# Altium footprint library LDO-DC_DC.PcbLib: 35 footprints (part 1 of 3)
Each footprint in its own frame and in the unit in brackets; x right, y up, seen from the top. Pads: shape width x height; smd on the part's side, far side on the other; paste and mask are expansions set on the pad; w line width, h text height; cw(c..) or ccw(c..) is an arc to the next point about the centre after c.
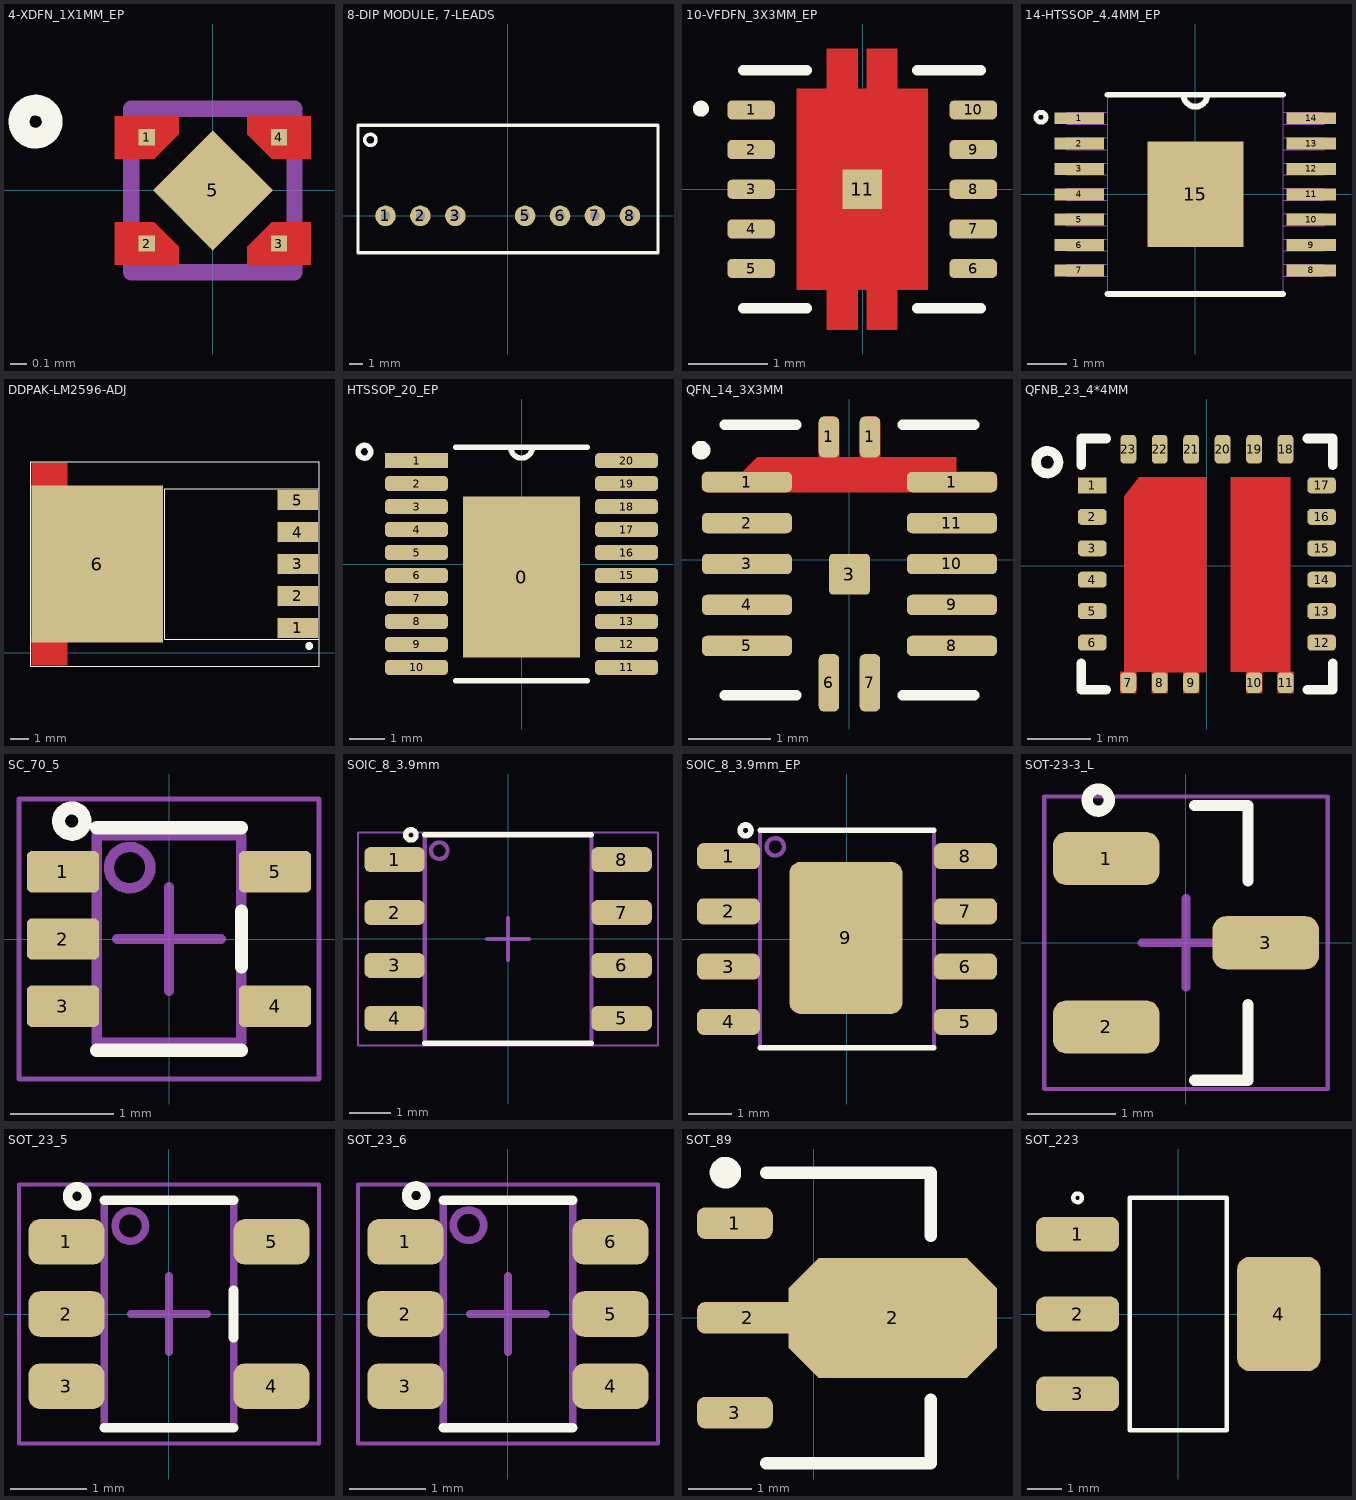
[diagram p0: the footprints below, top view; thin cyan lines are the x and y axes]

## 4-XDFN_1X1MM_EP [mm] "20220103 / A-F.Romo"
pads (5):
  rect 0.1x0.1 smd paste-1 mask+0: 1(-0.405,0.325) 2(-0.405,-0.325) 3(0.405,-0.325) 4(0.405,0.325)
  rect 0.52x0.52 smd rot 45: 5(0,0)
Top Layer:
  region: -0.21,0.345 -0.36,0.195 -0.6,0.195 -0.6,0.455 -0.21,0.455
  region: -0.21,-0.345 -0.21,-0.455 -0.6,-0.455 -0.6,-0.195 -0.36,-0.195
  region: 0.6,-0.455 0.21,-0.455 0.21,-0.345 0.36,-0.195 0.6,-0.195
  region: 0.6,0.195 0.36,0.195 0.21,0.345 0.21,0.455 0.6,0.455
Top Overlay:
  circle w0.127: c-1.085,0.421 r0.102
Top Paste:
  region: -0.21,0.345 -0.36,0.195 -0.6,0.195 -0.6,0.455 -0.21,0.455
  region: -0.21,-0.345 -0.21,-0.455 -0.6,-0.455 -0.6,-0.195 -0.36,-0.195
  region: 0.6,-0.455 0.21,-0.455 0.21,-0.345 0.36,-0.195 0.6,-0.195
  region: 0.6,0.195 0.36,0.195 0.21,0.345 0.21,0.455 0.6,0.455
Top Solder:
  region: -0.16,0.32 -0.335,0.145 -0.65,0.145 -0.65,0.505 -0.16,0.505
  region: -0.16,-0.32 -0.16,-0.505 -0.65,-0.505 -0.65,-0.145 -0.335,-0.145
  region: 0.65,-0.505 0.16,-0.505 0.16,-0.32 0.335,-0.145 0.65,-0.145
  region: 0.65,0.145 0.335,0.145 0.16,0.32 0.16,0.505 0.65,0.505
Mechanical 1:
  lines w0.1: -0.5,-0.5 0.5,-0.5 0.5,0.5 -0.5,0.5 -0.5,-0.5
3D body "step_temp.STEP": height 0.38, standoff -0.05, extent -0.5,-0.5 0.5,0.5

## 8-DIP MODULE, 7-LEADS [mm] "/20220607/F-A.Ospina"
pads (7):
  round 1.5 hole 0.635: 1(-8.89,0) 2(-6.35,0) 3(-3.81,0) 5(1.27,0) 6(3.81,0) 7(6.35,0) 8(8.89,0)
Top Overlay:
  circle w0.254: c-9.988,5.53 r0.408
  lines w0.254: -10.89,-2.7 -10.89,6.6 10.91,6.6 ; -10.87,-2.69 10.93,-2.69 ; 10.94,-2.69 10.94,6.61
3D body: height 2.61, standoff -0.39, extent 8.69,-0.2 9.088,0.2
3D body: height 11.2, standoff 0, extent -10.915,-2.722 10.878,6.575
3D body: height 2.61, standoff -0.39, extent 6.15,-0.2 6.548,0.2
3D body: height 2.61, standoff -0.39, extent 3.61,-0.2 4.008,0.2
3D body: height 2.61, standoff -0.39, extent 1.07,-0.2 1.468,0.2
3D body: height 2.61, standoff -0.39, extent -4.01,-0.2 -3.612,0.2
3D body: height 2.61, standoff -0.39, extent -6.55,-0.2 -6.152,0.2
3D body: height 2.61, standoff -0.39, extent -9.09,-0.2 -8.692,0.2

## 10-VFDFN_3X3MM_EP [mm] "/20210803/J-E.Pachon"
pads (11):
  rrect50% 0.6x0.24 smd: 1(-1.41,1) 2(-1.41,0.5) 3(-1.41,0) 4(-1.41,-0.5) 5(-1.41,-1) 6(1.39,-1) 7(1.39,-0.5) 8(1.39,0) 9(1.39,0.5) 10(1.39,1)
  rect 0.5x0.5 smd paste-1 mask+0: 11(-0.01,0)
Top Layer:
  region: 0.435,1.27 0.815,1.27 0.815,-1.27 0.435,-1.27 0.435,-1.77 0.045,-1.77 0.045,-1.27 -0.065,-1.27 -0.065,-1.77 -0.455,-1.77 -0.455,-1.27 -0.835,-1.27 -0.835,1.27 -0.455,1.27 -0.455,1.77 -0.065,1.77 -0.065,1.27 0.045,1.27 0.045,1.77 0.435,1.77
  region: 0.365,1.2 0.815,1.2 0.815,-1.2 0.365,-1.2 0.365,-1.7 0.115,-1.7 0.115,-1.2 -0.135,-1.2 -0.135,-1.7 -0.385,-1.7 -0.385,-1.2 -0.835,-1.2 -0.835,1.2 -0.385,1.2 -0.385,1.7 -0.135,1.7 -0.135,1.2 0.115,1.2 0.115,1.7 0.365,1.7
Top Overlay:
  circle w0.1: c-2.042,1.016 r0.05
  lines w0.127: -1.51,-1.5 -0.705,-1.5 ; -1.51,1.5 -0.705,1.5 ; 0.685,-1.5 1.49,-1.5 ; 0.685,1.5 1.49,1.5
Top Paste:
  region: -0.135,1.36 -0.385,1.36 -0.385,1.7 -0.135,1.7
  region: 0.365,1.36 0.115,1.36 0.115,1.7 0.365,1.7
  region: -0.135,-1.7 -0.385,-1.7 -0.385,-1.36 -0.135,-1.36
  region: 0.365,-1.7 0.115,-1.7 0.115,-1.36 0.365,-1.36
  region: 0.74,0.1 -0.76,0.1 -0.76,1.16 0.74,1.16
  region: 0.74,-1.16 -0.76,-1.16 -0.76,-0.1 0.74,-0.1
Top Solder:
  region: 0.431,1.277 0.811,1.277 0.811,-1.263 0.431,-1.263 0.431,-1.763 0.041,-1.763 0.041,-1.263 -0.069,-1.263 -0.069,-1.763 -0.459,-1.763 -0.459,-1.263 -0.839,-1.263 -0.839,1.277 -0.459,1.277 -0.459,1.777 -0.069,1.777 -0.069,1.277 0.041,1.277 0.041,1.777 0.431,1.777
3D body "TPS61087DSCR--3DModel-STEP-56544.STEP": height 0.81, standoff 0.01, extent -1.51,-1.5 1.49,1.5

## 14-HTSSOP_4.4MM_EP [mil] "20220111/J-E.Pachon"
pads (15):
  rect 50x12 smd: 1(-117,76.77) 2(-117,51.18) 3(-117,25.59) 4(-117,0) 5(-117,-25.59) 6(-117,-51.18) 7(-117,-76.77) 8(117,-76.77) 9(117,-51.18) 10(117,-25.59) 11(117,0) 12(117,25.59) 13(117,51.18) 14(117,76.77)
  rect 96.85x106.3 smd: 15(0,0)
Top Layer:
  region: 0,45.47
  region: 0,-45.47
Top Overlay:
  circle w5: c-155.91,77.77 r5
  lines w6: -88.5,-100.5 88.5,-100.5 ; -88.5,100.5 88.5,100.5 ; -12,100.5 ccw(c0,100.5) 12,100.5
Top Solder:
  region: 0,45.47
  region: 0,-45.47
Mechanical 13:
  lines w0: -12,100.5 ccw(c0,100.5) 12,100.5
  lines w1: -130,-82.77 -130,-70.77 -88.5,-70.77 -88.5,-82.77 -130,-82.77 ; -130,-57.18 -130,-45.18 -88.5,-45.18 -88.5,-57.18 -130,-57.18 ; -130,-31.59 -130,-19.59 -88.5,-19.59 -88.5,-31.59 -130,-31.59 ; -130,-6 -130,6 -88.5,6 -88.5,-6 -130,-6 ; -130,19.59 -130,31.59 -88.5,31.59 -88.5,19.59 -130,19.59 ; -130,45.18 -130,57.18 -88.5,57.18 -88.5,45.18 -130,45.18 ; -130,70.77 -130,82.77 -88.5,82.77 -88.5,70.77 -130,70.77 ; -88.5,-100.5 88.5,-100.5 88.5,100.5 -88.5,100.5 -88.5,-100.5 ; 88.5,-82.77 88.5,-70.77 130,-70.77 130,-82.77 88.5,-82.77 ; 88.5,-57.18 88.5,-45.18 130,-45.18 130,-57.18 88.5,-57.18 ; 88.5,-31.59 88.5,-19.59 130,-19.59 130,-31.59 88.5,-31.59 ; 88.5,-6 88.5,6 130,6 130,-6 88.5,-6 ; 88.5,19.59 88.5,31.59 130,31.59 130,19.59 88.5,19.59 ; 88.5,45.18 88.5,57.18 130,57.18 130,45.18 88.5,45.18 ; 88.5,70.77 88.5,82.77 130,82.77 130,70.77 88.5,70.77
3D body "PWP14.step": height 67.09, standoff 0, extent -130,-100.52 130,100.5

## DDPAK-LM2596-ADJ [mm] "/ 20231112 / J.Jaramillo"
pads (6):
  rect 2.16x1.07 smd paste-0.102 mask+0.051: 1(16.847,1.32) 2(16.847,3.02) 3(16.847,4.725) 4(16.847,6.42) 5(16.847,8.12)
  rect 6.99x8.33 smd paste-0.102 mask+0.051: 6(6.172,4.72)
Top Layer:
  region: 2.678,10.12 2.678,8.72 4.587,8.72 4.587,10.12
  region: 2.678,0.82 2.678,-0.68 4.587,-0.68 4.587,0.82
Top Overlay:
  circle w0.203: c17.45,0.36 r0.108
  lines w0.051: 17.97,10.17 17.97,-0.731 2.627,-0.731 2.627,10.171 17.97,10.171 ; 9.76,0.72 17.97,0.72 17.97,8.73 9.76,8.73 9.76,0.72
Top Paste:
  region: 2.779,10.018 2.779,8.822 4.486,8.822 4.486,10.018
  region: 2.779,0.718 2.779,-0.578 4.486,-0.578 4.486,0.718
Top Solder:
  region: 2.627,10.171 2.627,8.669 4.638,8.669 4.638,10.171
  region: 2.627,0.871 2.627,-0.731 4.638,-0.731 4.638,0.871
3D body "LM2596S-ADJ_NOPB.STEP": height 4.78, standoff -0.03, extent 3.355,-0.34 17.706,9.82

## HTSSOP_20_EP [mm] "20PTSSOP/20220419/V-A.Patino"
pads (21):
  rect 3.32x4.55 smd: 0(0,-0.37)
  rect 1.78x0.42 smd: 1(-2.97,2.925)
  rrect50% 1.78x0.42 smd: 2(-2.97,2.275) 3(-2.97,1.625) 4(-2.97,0.975) 5(-2.97,0.325) 6(-2.97,-0.325) 7(-2.97,-0.975) 8(-2.97,-1.625) 9(-2.97,-2.275) 10(-2.97,-2.925) 11(2.97,-2.925) 12(2.97,-2.275) 13(2.97,-1.625) 14(2.97,-0.975) 15(2.97,-0.325) 16(2.97,0.325) 17(2.97,0.975) 18(2.97,1.625) 19(2.97,2.275) 20(2.97,2.925)
Top Overlay:
  circle w0.152: c-4.445,3.175 r0.18
  lines w0.152: -1.867,-3.302 1.867,-3.302 ; -1.867,3.302 1.867,3.302 ; -0.305,3.302 ccw(c0,3.302) 0.305,3.302
3D body "PWP0020AA.stp": height 0.98, standoff -0.02, extent -3.21,-3.25 3.21,3.25

## QFN_14_3X3MM [mm] "20220809 / E.Naranjo"
pads (15):
  rrect50% 1.1x0.25 smd mask+0.051: 1(-1.25,0.95) 1(1.25,0.95) 2(-1.25,0.45) 3(-1.25,-0.05) 4(-1.25,-0.55) 5(-1.25,-1.05) 8(1.25,-1.05) 9(1.25,-0.55) 10(1.25,-0.05) 11(1.25,0.45)
  rrect50% 0.25x0.5 smd mask+0.051: 1(-0.25,1.5) 1(0.25,1.5)
  rrect20% 0.5x0.5 smd mask+0.051: 3(0,-0.175)
  rrect50% 0.25x0.7 smd mask+0.051: 6(-0.25,-1.5) 7(0.25,-1.5)
Top Layer:
  region: -1.3,1.075 -1.125,1.25 -0.375,1.25 -0.375,1.656 -0.375,1.674 -0.361,1.709 -0.334,1.736 -0.299,1.75 -0.281,1.75 -0.221,1.75 -0.202,1.75 -0.167,1.735 -0.14,1.708 -0.125,1.673 -0.125,1.654 -0.125,1.25 0.125,1.25 0.125,1.642 0.125,1.663 0.142,1.703 0.172,1.733 0.212,1.75 0.233,1.75 0.288,1.75 0.305,1.75 0.337,1.737 0.362,1.712 0.375,1.68 0.375,1.663 0.375,1.25 1.3,1.25 1.3,1.075 1.712,1.075 1.729,1.075 1.762,1.062 1.787,1.037 1.8,1.004 1.8,0.987 1.8,0.918 1.8,0.9 1.786,0.865 1.76,0.839 1.725,0.825 1.707,0.825 -1.727,0.825 -1.741,0.825 -1.768,0.836 -1.789,0.857 -1.8,0.884 -1.8,0.898 -1.8,1.011 -1.8,1.023 -1.79,1.047 -1.772,1.065 -1.748,1.075 -1.736,1.075
Top Overlay:
  circle w0.127: c-1.81,1.34 r0.05
  lines w0.127: -1.52,-1.65 -0.65,-1.65 ; -1.52,1.65 -0.65,1.65 ; 0.65,-1.65 1.52,-1.65 ; 0.65,1.65 1.52,1.65
Top Paste:
  region: -1.3,1.075 -1.125,1.25 -0.375,1.25 -0.375,1.656 -0.375,1.674 -0.361,1.709 -0.334,1.736 -0.299,1.75 -0.281,1.75 -0.221,1.75 -0.202,1.75 -0.167,1.735 -0.14,1.708 -0.125,1.673 -0.125,1.654 -0.125,1.25 0.125,1.25 0.125,1.642 0.125,1.663 0.142,1.703 0.172,1.733 0.212,1.75 0.233,1.75 0.288,1.75 0.305,1.75 0.337,1.737 0.362,1.712 0.375,1.68 0.375,1.663 0.375,1.25 1.3,1.25 1.3,1.075 1.712,1.075 1.729,1.075 1.762,1.062 1.787,1.037 1.8,1.004 1.8,0.987 1.8,0.918 1.8,0.9 1.786,0.865 1.76,0.839 1.725,0.825 1.707,0.825 -1.727,0.825 -1.741,0.825 -1.768,0.836 -1.789,0.857 -1.8,0.884 -1.8,0.898 -1.8,1.011 -1.8,1.023 -1.79,1.047 -1.772,1.065 -1.748,1.075 -1.736,1.075
Top Solder:
  region: -1.3,1.075 -1.125,1.25 -0.375,1.25 -0.375,1.656 -0.375,1.674 -0.361,1.709 -0.334,1.736 -0.299,1.75 -0.281,1.75 -0.221,1.75 -0.202,1.75 -0.167,1.735 -0.14,1.708 -0.125,1.673 -0.125,1.654 -0.125,1.25 0.125,1.25 0.125,1.642 0.125,1.663 0.142,1.703 0.172,1.733 0.212,1.75 0.233,1.75 0.288,1.75 0.305,1.75 0.337,1.737 0.362,1.712 0.375,1.68 0.375,1.663 0.375,1.25 1.3,1.25 1.3,1.075 1.712,1.075 1.729,1.075 1.762,1.062 1.787,1.037 1.8,1.004 1.8,0.987 1.8,0.918 1.8,0.9 1.786,0.865 1.76,0.839 1.725,0.825 1.707,0.825 -1.727,0.825 -1.741,0.825 -1.768,0.836 -1.789,0.857 -1.8,0.884 -1.8,0.898 -1.8,1.011 -1.8,1.023 -1.79,1.047 -1.772,1.065 -1.748,1.075 -1.736,1.075
3D body "MP2229 ?21V, 6A SYNCHRONOUS STEP-DOWN CONVERTER.stp": height 0.91, standoff -0.01, extent -1.473,-1.527 1.477,1.423

## QFNB_23_4*4MM [mil] "23-PTQFN/20220419/V-A.Patino"
pads (23):
  rect 18x10 smd: 1(-71.85,50.5)
  rrect50% 18x10 smd: 2(-71.85,30.8) 3(-71.85,11.1) 4(-71.85,-8.6) 5(-71.85,-28.3) 6(-71.85,-48) 12(71.85,-48) 13(71.85,-28.3) 14(71.85,-8.6) 15(71.85,11.1) 16(71.85,30.8) 17(71.85,50.5)
  rrect50% 10x13 smd: 7(-49.25,-73.1) 8(-29.55,-73.1) 9(-9.85,-73.1) 10(29.55,-73.1) 11(49.25,-73.1)
  rrect50% 10x18 smd: 18(49.25,73.1) 19(29.55,73.1) 20(9.85,73.1) 21(-9.85,73.1) 22(-29.55,73.1) 23(-49.25,73.1)
Top Layer:
  region: 14.85,55.7 14.85,-66.3 24.55,-66.3 24.55,-79.6 34.55,-79.6 34.55,-66.3 44.25,-66.3 44.25,-79.6 54.25,-79.6 54.25,-66.3 52.25,-66.3 52.25,55.7
  region: -0.4,55.7 -42.5,55.7 -51.85,43.75 -51.85,-66.3 -54.25,-66.3 -54.25,-79.6 -44.25,-79.6 -44.25,-66.6 -34.55,-66.3 -34.55,-79.6 -24.55,-79.6 -24.55,-66.6 -14.85,-66.6 -14.85,-79.6 -4.85,-79.6 -4.85,-66.6 -0.4,-66.6
Top Overlay:
  circle w6: c-100,65 r7.07
  lines w6: -78.74,-61.02 -78.74,-77.64 -62.99,-77.64 ; -78.74,62.99 -78.74,79.84 -62.99,79.84 ; 62.99,-77.64 78.74,-77.64 78.74,-61.02 ; 62.99,79.84 78.74,79.84 78.74,62.99
Top Paste:
  region: 14.85,55.7 14.85,-66.3 24.55,-66.3 24.55,-79.6 34.55,-79.6 34.55,-66.3 44.25,-66.3 44.25,-79.6 54.25,-79.6 54.25,-66.3 52.25,-66.3 52.25,55.7
  region: -0.4,55.7 -42.5,55.7 -51.85,43.75 -51.85,-66.3 -54.25,-66.3 -54.25,-79.6 -44.25,-79.6 -44.25,-66.6 -34.55,-66.3 -34.55,-79.6 -24.55,-79.6 -24.55,-66.6 -14.85,-66.6 -14.85,-79.6 -4.85,-79.6 -4.85,-66.6 -0.4,-66.6
Top Solder:
  region: -0.4,55.7 -42.5,55.7 -51.85,43.75 -51.85,-66.3 -54.25,-66.3 -54.25,-79.6 -44.25,-79.6 -44.25,-66.6 -34.55,-66.3 -34.55,-79.6 -24.55,-79.6 -24.55,-66.6 -14.85,-66.6 -14.85,-79.6 -4.85,-79.6 -4.85,-66.6 -0.4,-66.6
  region: 14.85,55.7 14.85,-66.3 24.55,-66.3 24.55,-79.6 34.55,-79.6 34.55,-66.3 44.25,-66.3 44.25,-79.6 54.25,-79.6 54.25,-66.3 52.25,-66.3 52.25,55.7
3D body: height 35.43, standoff 0, extent -78.74,-77.64 78.74,79.84

## SC_70_5 [mm] "TSSOP5, SOT-353 / 20190221 / H-D.Garcia"
height 1.1
pads (5):
  rrect25% 0.7x0.4 smd: 1(-1.025,0.65) 2(-1.025,0) 3(-1.025,-0.65) 4(1.025,-0.65) 5(1.025,0.65)
Top Overlay:
  circle w0.127: c-0.94,1.14 r0.127
  lines w0.127: -0.7,-1.075 0.7,-1.075 ; -0.7,1.075 0.7,1.075 ; 0.7,-0.27 0.7,0.27
Mechanical 1:
  circle w0.1: c-0.38,0.69 r0.2
  lines w0.1: -0.7,-1 -0.7,1 0.7,1 0.7,-1 -0.7,-1
Mechanical 15:
  lines w0.05: -1.45,-1.355 1.45,-1.355 1.45,1.355 -1.45,1.355 -1.45,-1.355
  lines w0.1: -0.5,0 0.5,0 ; 0,-0.5 0,0.5
3D body "DCK0005AakaMAA05A.stp": height 0.94, standoff -0.01, extent -1.14,-1 1.14,1

## SOIC_8_3.9mm [mm] "/20210511/C-A.Serna.A"
pads (8):
  rrect50% 1.45x0.6 smd: 1(-2.725,1.905) 2(-2.725,0.635) 3(-2.725,-0.635) 4(-2.725,-1.905) 5(2.725,-1.905) 6(2.725,-0.635) 7(2.725,0.635) 8(2.725,1.905)
Top Overlay:
  circle w0.127: c-2.332,2.499 r0.125
  lines w0.127: -2,-2.5 2,-2.5 ; -2,2.5 2,2.5
Mechanical 1:
  circle w0.1: c-1.65,2.12 r0.2
  lines w0.1: -2,-2.5 -2,2.5 2,2.5 2,-2.5 -2,-2.5
Mechanical 15:
  lines w0.05: -3.601,-2.555 -3.601,2.555 3.599,2.555 3.599,-2.555 -3.601,-2.555
  lines w0.1: -0.5,0 0.5,0 ; 0,-0.5 0,0.5
3D body "User Library-sop8_model.STEP": height 1.57, standoff 0.01, extent -2.941,-2.462 3.039,2.438

## SOIC_8_3.9mm_EP [mm] "SOP-8-EP / 20240420 / J.Jaramillo"
pads (9):
  rrect50% 1.45x0.6 smd: 1(-2.725,1.905) 2(-2.725,0.635) 3(-2.725,-0.635) 4(-2.725,-1.905) 5(2.725,-1.905) 6(2.725,-0.635) 7(2.725,0.635) 8(2.725,1.905)
  rrect20% 2.6x3.5 smd: 9(-0.025,0.025)
Top Overlay:
  circle w0.127: c-2.332,2.499 r0.125
  lines w0.127: -2,-2.5 2,-2.5 ; -2,2.5 2,2.5
Mechanical 1:
  circle w0.1: c-1.65,2.12 r0.2
  lines w0.1: -2,-2.5 2,-2.5 2,2.5 -2,2.5 -2,-2.5
3D body "User Library-sop8_model.STEP": height 1.57, standoff 0.01, extent -2.941,-2.462 3.039,2.438

## SOT-23-3_L [mm] "TO-236-3, SC-59, SOT-23-3/20190611/N-A.Potosi"
height 1.12
pads (3):
  rrect50% 1.2x0.6 smd: 1(-0.9,0.95) 2(-0.9,-0.95) 3(0.9,0)
Top Overlay:
  circle w0.127: c-0.99,1.61 r0.125
  lines w0.127: 0.1,-1.55 0.7,-1.55 0.7,-0.7 ; 0.1,1.55 0.7,1.55 0.7,0.7
Mechanical 15:
  lines w0.05: -1.6,-1.65 1.6,-1.65 1.6,1.65 -1.6,1.65 -1.6,-1.65
  lines w0.1: -0.5,0 0.5,0 ; 0,-0.5 0,0.5
3D body "User Library-3-lead sot23-3.step": height 1.03, standoff 0.01, extent -1.23,-1.47 1.246,1.45

## SOT_23_5 [mm] "SC-74A, SOT-753 / 20190221 / H-D.Garcia"
height 1.45
pads (5):
  rrect50% 1x0.6 smd: 1(-1.35,0.95) 2(-1.35,0) 3(-1.35,-0.95) 4(1.35,-0.95) 5(1.35,0.95)
Top Overlay:
  circle w0.127: c-1.21,1.55 r0.125
  lines w0.127: -0.85,-1.5 0.85,-1.5 ; -0.85,1.5 0.85,1.5 ; 0.85,-0.315 0.85,0.315
Mechanical 1:
  circle w0.1: c-0.51,1.16 r0.2
  lines w0.1: -0.85,-1.5 0.85,-1.5 0.85,1.5 -0.85,1.5 -0.85,-1.5
Mechanical 15:
  lines w0.05: -1.975,-1.705 1.975,-1.705 1.975,1.705 -1.975,1.705 -1.975,-1.705
  lines w0.1: -0.5,0 0.5,0 ; 0,-0.5 0,0.5
3D body "SOT95P280X145-5N.step": height 1.45, standoff 0, extent -1.5,-1.5 1.5,1.5

## SOT_23_6 [mm] "SC-74,SOT-457 / 20190221 / H-D.Garcia"
height 1.45
pads (6):
  rrect50% 1x0.6 smd: 1(-1.35,0.95) 2(-1.35,0) 3(-1.35,-0.95) 4(1.35,-0.95) 5(1.35,0) 6(1.35,0.95)
Top Overlay:
  circle w0.127: c-1.21,1.56 r0.125
  lines w0.127: -0.85,-1.5 0.85,-1.5 ; -0.85,1.5 0.85,1.5
Mechanical 1:
  circle w0.1: c-0.52,1.17 r0.2
  lines w0.1: -0.85,-1.5 -0.85,1.5 0.85,1.5 0.85,-1.5 -0.85,-1.5
Mechanical 15:
  lines w0.05: -1.975,-1.705 -1.975,1.705 1.975,1.705 1.975,-1.705 -1.975,-1.705
  lines w0.1: -0.5,0 0.5,0 ; 0,-0.5 0,0.5
3D body "DDC0006A.stp": height 0.9, standoff -0.02, extent -1.434,-1.485 1.434,1.485

## SOT_89 [mm] "/20210416/V-A.Patino"
pads (4):
  rrect50% 1.2x0.5 smd: 1(-1.25,1.5) 3(-1.25,-1.5)
  rrect50% 1.6x0.5 smd: 2(-1.05,0)
  oct 3.3x1.9 smd: 2(1.25,0)
Top Overlay:
  circle w0.25: c-1.4,2.3 r0.125
  lines w0.2: -0.75,-2.3 1.85,-2.3 1.85,-1.3 ; -0.75,2.3 1.85,2.3 1.85,1.3
3D body: height 1.6, standoff 0, extent -0.745,-2.3 1.845,2.3

## SOT_223 [mm] "TO-261-4, TO-261AA / 20231119 / J.Jaramillo"
height 1.45
pads (4):
  rrect50% 2.4x1 smd: 1(-2.9,2.3) 2(-2.9,0) 3(-2.9,-2.3)
  rrect30% 2.4x3.3 smd: 4(2.9,0)
Top Overlay:
  circle w0.127: c-2.9,3.35 r0.125
  lines w0.127: -1.4,-3.35 -1.4,3.35 1.4,3.35 1.4,-3.35 -1.4,-3.35
3D body "AZ1117EH-3.3TRG1.STEP": height 1.65, standoff 0, extent -3.5,-3.25 3.5,3.25